# Altium integrated library Push_Button_Switches_rev15a.intlib: 2 symbols
Pins are listed as number, name and electrical type; pins without a type are passive.

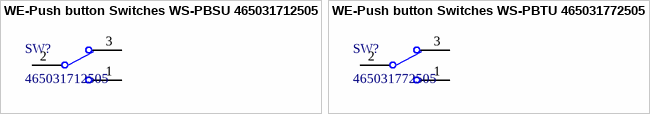
[diagram p0: symbols WE-Push button Switches WS-PBSU 465031712505 to WE-Push button Switches WS-PBTU 465031772505]

## WE-Push button Switches WS-PBSU 465031712505
designator SW?, comment 465031712505
WS-PBSU SMD Push button Switch 18.5x9.8mm; Manufacturer: Wurth Elektronik; E-mail: libraries@we-online.com; ComponentLink1Description: Manufacturer; ComponentLink1URL: http://www.we-online.com; ComponentLink2Description: Datasheet; ComponentLink2URL: http://katalog.we-online.de/em/datasheet/465031712505.pdf; Created by: Karrer Zheng; Created Date: 5/11/2015; partNo: 465031712505
footprint 465031712505 (9.8x18.5mm left angle type, SMT, diameter of actuator: 2.8mm, SPDT, with bracket design, T/R)
pins: 1, 2, 3

## WE-Push button Switches WS-PBTU 465031772505
designator SW?, comment 465031772505
WS-PBTU THT Push button Switch 18.5x9.8mm; Manufacturer: Wurth Elektronik; E-mail: libraries@we-online.com; ComponentLink1Description: Manufacturer; ComponentLink1URL: http://www.we-online.com; ComponentLink2Description: Datasheet; ComponentLink2URL: http://katalog.we-online.de/em/datasheet/465031772505.pdf; Created by: Karrer Zheng; Created Date: 5/11/2015; partNo: 465031772505
footprint 465031772505 (9.8x18.5mm left angle type, THT, diameter of actuator: 2.8mm, SPDT, with bracket design, Tray)
pins: 1, 2, 3